# EAGLE library part 1X12 (library parts)
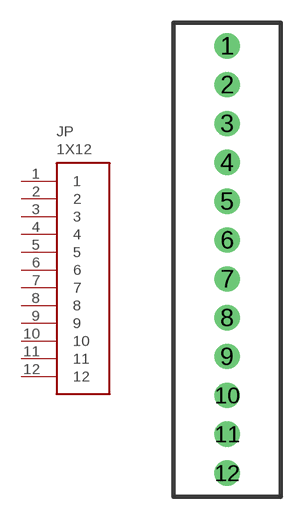
[diagram p10: symbol with the pads of TERMBLOCK-.1-12-1-282834-2; footprint TERMBLOCK-.1-12-1-282834-2]

Designator prefix JP

## 1X12  [TERMBLOCK-.1-12-1-282834-2]
1  1  pas
2  2  pas
3  3  pas
4  4  pas
5  5  pas
6  6  pas
7  7  pas
8  8  pas
9  9  pas
10  10  pas
11  11  pas
12  12  pas

## Footprint TERMBLOCK-.1-12-1-282834-2 (pad centres in mm)
drill 1.1 round: 1 0,0; 2 0,-2.54; 3 0,-5.08; 4 0,-7.62; 5 0,-10.16; 6 0,-12.7; 7 0,-15.24; 8 0,-17.78; 9 0,-20.32; 10 0,-22.86; 11 0,-25.4; 12 0,-27.94